# Altium schematic symbol library BZT52.SchLib: 1 symbol
Pins are listed as number, name and electrical type; pins without a type are passive.

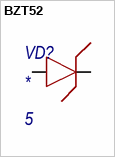
[diagram p0: symbol BZT52]

## BZT52
designator VD?  напряжение: 5
footprint SOD-323
pins: 1, 2